# EAGLE library part AT42QT1110 (library deiring-components)
Capacitive Touch Sensor
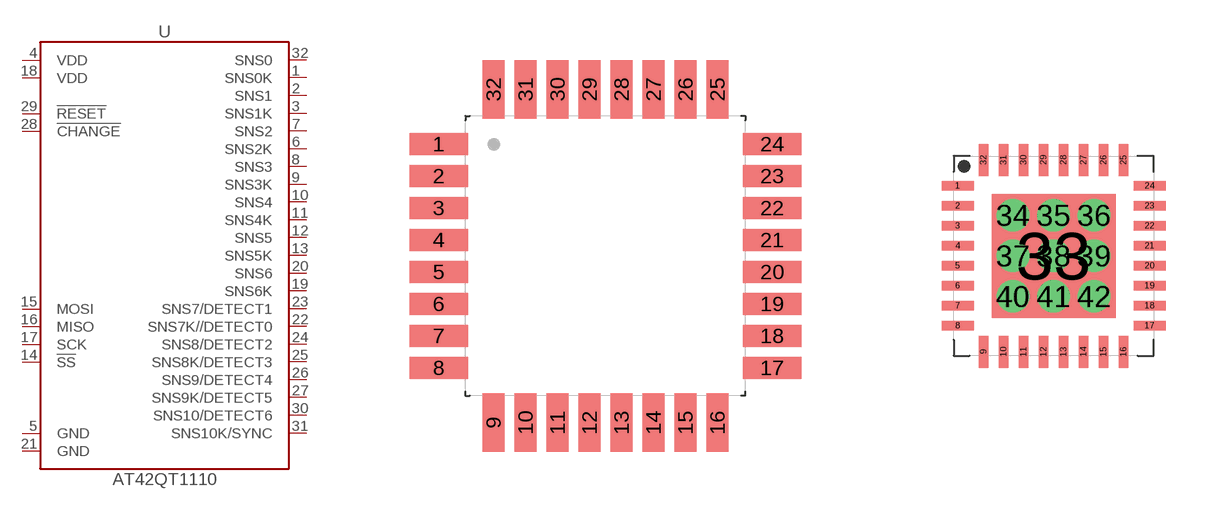
[diagram p35: symbol with the pads of TQFP-32; footprints TQFP-32, QFN-32]

Designator prefix U

## AT42QT1110-TQFP-32 (LCSC: C219838; MF: Microchip Tech; MOUSER: 556-AT42QT1110-AUR; MPN: AT42QT1110-AUR; VALUE: AT42QT1110)  [TQFP-32]
1  SNS0K
2  SNS1
3  SNS1K
4  VDD  pwr
5  GND  pwr
6  SNS2K
7  SNS2
8  SNS3
9  SNS3K
10  SNS4
11  SNS4K
12  SNS5
13  SNS5K
14  !SS  in
15  MOSI
16  MISO
17  SCK
18  VDD  pwr
19  SNS6K
20  SNS6
21  GND  pwr
22  SNS7K//DETECT0
23  SNS7/DETECT1
24  SNS8/DETECT2
25  SNS8K/DETECT3
26  SNS9/DETECT4
27  SNS9K/DETECT5
28  !CHANGE  out
29  !RESET
30  SNS10/DETECT6
31  SNS10K/SYNC
32  SNS0

## AT42QT1110-QFN-32 (LCSC: C2652053; MF: Microchip Tech; MOUSER: 556-AT42QT1110-MU; MPN: AT42QT1110-AUR; VALUE: AT42QT1110)  [QFN-32]
1  SNS0K
2  SNS1
3  SNS1K
4  VDD  pwr
5  GND  pwr
6  SNS2K
7  SNS2
8  SNS3
9  SNS3K
10  SNS4
11  SNS4K
12  SNS5
13  SNS5K
14  !SS  in
15  MOSI
16  MISO
17  SCK
18  VDD  pwr
19  SNS6K
20  SNS6
21  GND  pwr
22  SNS7K//DETECT0
23  SNS7/DETECT1
24  SNS8/DETECT2
25  SNS8K/DETECT3
26  SNS9/DETECT4
27  SNS9K/DETECT5
28  !CHANGE  out
29  !RESET
30  SNS10/DETECT6
31  SNS10K/SYNC
32  SNS0
33  GND  pwr
34  GND  pwr
35  GND  pwr
36  GND  pwr
37  GND  pwr
38  GND  pwr
39  GND  pwr
40  GND  pwr
41  GND  pwr
42  GND  pwr

## Footprint TQFP-32 (pad centres in mm)
smd 1.47 x 0.55: 1 -4.17,2.8; 2 -4.17,2; 3 -4.17,1.2; 4 -4.17,0.4; 5 -4.17,-0.4; 6 -4.17,-1.2; 7 -4.17,-2; 8 -4.17,-2.8; 17 4.17,-2.8; 18 4.17,-2; 19 4.17,-1.2; 20 4.17,-0.4; 21 4.17,0.4; 22 4.17,1.2; 23 4.17,2; 24 4.17,2.8
smd 0.55 x 1.47: 9 -2.8,-4.17; 10 -2,-4.17; 11 -1.2,-4.17; 12 -0.4,-4.17; 13 0.4,-4.17; 14 1.2,-4.17; 15 2,-4.17; 16 2.8,-4.17; 25 2.8,4.17; 26 2,4.17; 27 1.2,4.17; 28 0.4,4.17; 29 -0.4,4.17; 30 -1.2,4.17; 31 -2,4.17; 32 -2.8,4.17

## Footprint QFN-32 (pad centres in mm)
smd 0.8 x 0.23: 1 -2.4,1.75; 2 -2.4,1.25; 3 -2.4,0.75; 4 -2.4,0.25; 5 -2.4,-0.25; 6 -2.4,-0.75; 7 -2.4,-1.25; 8 -2.4,-1.75; 17 2.4,-1.75; 18 2.4,-1.25; 19 2.4,-0.75; 20 2.4,-0.25; 21 2.4,0.25; 22 2.4,0.75; 23 2.4,1.25; 24 2.4,1.75
smd 0.23 x 0.8: 9 -1.75,-2.4; 10 -1.25,-2.4; 11 -0.75,-2.4; 12 -0.25,-2.4; 13 0.25,-2.4; 14 0.75,-2.4; 15 1.25,-2.4; 16 1.75,-2.4; 25 1.75,2.4; 26 1.25,2.4; 27 0.75,2.4; 28 0.25,2.4; 29 -0.25,2.4; 30 -0.75,2.4; 31 -1.25,2.4; 32 -1.75,2.4
smd 3.1 x 3.1: 33 0,0
drill 0.3 pad 0.5: 34 -1.016,1.016; 35 0,1.016; 36 1.016,1.016; 37 -1.016,0; 38 0,0; 39 1.016,0; 40 -1.016,-1.016; 41 0,-1.016; 42 1.016,-1.016